# Altium schematic symbol library CAP 8.2nF 50V.Schlib: 1 symbol
Pins are listed as number, name and electrical type; pins without a type are passive.

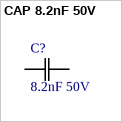
[diagram p0: symbol CAP 8.2nF 50V]

## CAP 8.2nF 50V
designator C?, comment 8.2nF 50V
CAP CER 8200PF 50V X7R 0805; Tolerance: 10%; Package: 0805; Value: 8.2nF; Rating: 50V; Temperature Coefficient: X7R; Operating Temperature: -55°C ~ 125°C
footprint 0805
pins: 1 C1, 2 C2